# Altium schematic symbol library IC_LM317.SchLib: 1 symbol
Pins are listed as number, name and electrical type; pins without a type are passive.

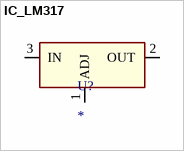
[diagram p0: symbol IC_LM317]

## IC_LM317
designator U?
pins: 1 ADJ, 2 OUT, 3 IN